# EAGLE library part 505567-0781 (library 505567-0781)
Headers & Wire Housings MicroLockPlus 1.25MM RA HDR SR 7P BLK GLD Source: Datasheet
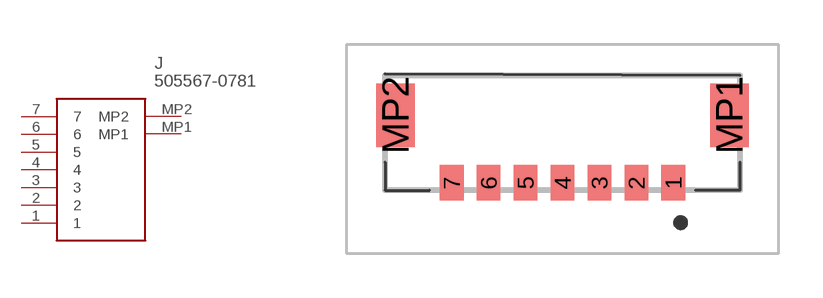
[diagram p0: symbol with the pads of 5055670781; footprint 5055670781]

Designator prefix J

## 505567-0781 (Description: Headers & Wire Housings MicroLockPlus 1.25MM RA HDR SR 7P BLK GLD; Height: 4.4mm; Manufacturer_Name: Molex; Manufacturer_Part_Number: 505567-0781; Mouser_Part_Number: 538-505567-0781; Mouser_Price-Stock: https://www.mouser.co.uk/ProductDetail/Molex/505567-0781?qs=gt1LBUVyoHk9Rz%2FclhSEPw%3D%3D)  [5055670781]
1  1
2  2
3  3
4  4
5  5
6  6
7  7
MP1  MP1
MP2  MP2

## Footprint 5055670781 (pad centres in mm)
505567-0781-2
smd 0.8 x 1.2: 1 3.75,-1.7; 2 2.5,-1.7; 3 1.25,-1.7; 4 0,-1.7; 5 -1.25,-1.7; 6 -2.5,-1.7; 7 -3.75,-1.7
smd 1.3 x 2.15: MP1 5.65,0.595; MP2 -5.65,0.595